# EAGLE library part PCA9685 (library nxp)
16-channel, 12-bit PWM Fm+ I2C-bus LED controller Source: http://www.jp.nxp.com/documents/data_sheet/PCA9685.pdf
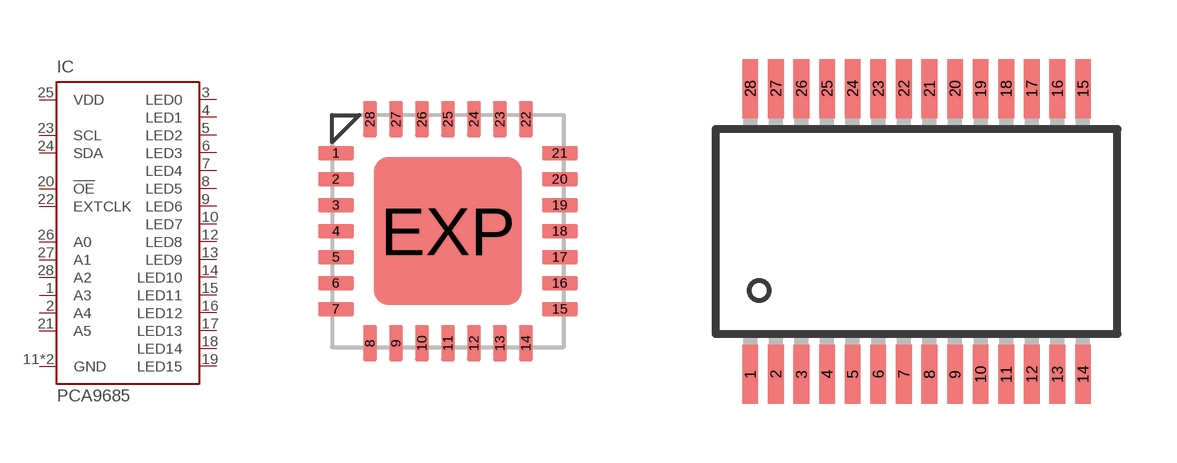
[diagram p0: symbol with the pads of QFN28-ML_6X6MM; footprints QFN28-ML_6X6MM, SSOP28]

Designator prefix IC

## PCA9685BS  [QFN28-ML_6X6MM]
1  A3  in
2  A4  in
3  LED0  out
4  LED1  out
5  LED2  out
6  LED3  out
7  LED4  out
8  LED5  out
9  LED6  out
10  LED7  out
11  GND  pwr
12  LED8  out
13  LED9  out
14  LED10  out
15  LED11  out
16  LED12  out
17  LED13  out
18  LED14  out
19  LED15  out
20  !OE!  in
21  A5  in
22  EXTCLK  in
23  SCL  in
24  SDA
25  VDD  pwr
26  A0  in
27  A1  in
28  A2  in
EXP  GND  pwr

## PCA9685PW  [SSOP28]
1  A0  in
2  A1  in
3  A2  in
4  A3  in
5  A4  in
6  LED0  out
7  LED1  out
8  LED2  out
9  LED3  out
10  LED4  out
11  LED5  out
12  LED6  out
13  LED7  out
14  GND  pwr
15  LED8  out
16  LED9  out
17  LED10  out
18  LED11  out
19  LED12  out
20  LED13  out
21  LED14  out
22  LED15  out
23  !OE!  in
24  A5  in
25  EXTCLK  in
26  SCL  in
27  SDA
28  VDD  pwr

## Footprint QFN28-ML_6X6MM (pad centres in mm)
smd 0.9 x 0.35: 1 -2.8,1.95; 2 -2.8,1.3; 3 -2.8,0.65; 4 -2.8,0; 5 -2.8,-0.65; 6 -2.8,-1.3; 7 -2.8,-1.95; 15 2.8,-1.95; 16 2.8,-1.3; 17 2.8,-0.65; 18 2.8,0; 19 2.8,0.65; 20 2.8,1.3; 21 2.8,1.95
smd 0.35 x 0.9: 8 -1.95,-2.8; 9 -1.3,-2.8; 10 -0.65,-2.8; 11 0,-2.8; 12 0.65,-2.8; 13 1.3,-2.8; 14 1.95,-2.8; 22 1.95,2.8; 23 1.3,2.8; 24 0.65,2.8; 25 0,2.8; 26 -0.65,2.8; 27 -1.3,2.8; 28 -1.95,2.8
smd 3.7 x 3.7: EXP 0,0

## Footprint SSOP28 (pad centres in mm)
smd 0.4 x 1.5: 1 -4.225,-3.625; 2 -3.575,-3.625; 3 -2.925,-3.625; 4 -2.275,-3.625; 5 -1.625,-3.625; 6 -0.975,-3.625; 7 -0.325,-3.625; 8 0.325,-3.625; 9 0.975,-3.625; 10 1.625,-3.625; 11 2.275,-3.625; 12 2.925,-3.625; 13 3.575,-3.625; 14 4.225,-3.625; 15 4.225,3.625; 16 3.575,3.625; 17 2.925,3.625; 18 2.275,3.625; 19 1.625,3.625; 20 0.975,3.625; 21 0.325,3.625; 22 -0.325,3.625; 23 -0.975,3.625; 24 -1.625,3.625; 25 -2.275,3.625; 26 -2.925,3.625; 27 -3.575,3.625; 28 -4.225,3.625